# Altium footprint library host_connectors.PcbLib: 2 footprints
Each footprint in its own frame and in the unit in brackets; x right, y up, seen from the top. Pads: shape width x height; smd on the part's side, far side on the other; paste and mask are expansions set on the pad; w line width, h text height; cw(c..) or ccw(c..) is an arc to the next point about the centre after c.
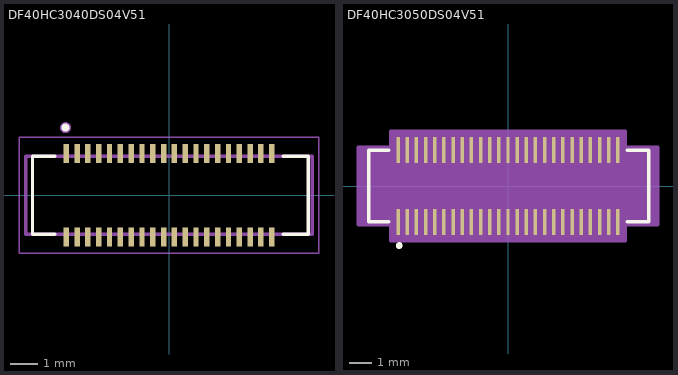
[diagram p0: the footprints below, top view; thin cyan lines are the x and y axes]

## DF40HC3040DS04V51 [mm]
pads (40):
  rect 0.2x0.7 smd: 1(-3.8,1.54) 2(-3.8,-1.54) 3(-3.4,1.54) 4(-3.4,-1.54) 5(-3,1.54) 6(-3,-1.54) 7(-2.6,1.54) 8(-2.6,-1.54) 9(-2.2,1.54) 10(-2.2,-1.54) 11(-1.8,1.54) 12(-1.8,-1.54) 13(-1.4,1.54) 14(-1.4,-1.54) 15(-1,1.54) 16(-1,-1.54) 17(-0.6,1.54) 18(-0.6,-1.54) 19(-0.2,1.54) 20(-0.2,-1.54) 21(0.2,1.54) 22(0.2,-1.54) 23(0.6,1.54) 24(0.6,-1.54) 25(1,1.54) 26(1,-1.54) 27(1.4,1.54) 28(1.4,-1.54) 29(1.8,1.54) 30(1.8,-1.54) 31(2.2,1.54) 32(2.2,-1.54) 33(2.6,1.54) 34(2.6,-1.54) 35(3,1.54) 36(3,-1.54) 37(3.4,1.54) 38(3.4,-1.54) 39(3.8,1.54) 40(3.8,-1.54)
Top Overlay:
  circle w0.2: c-3.83,2.5 r0.05
  lines w0.127: -4.22,-1.44 -5.05,-1.44 -5.05,1.44 -4.22,1.44 ; 4.22,-1.44 5.15,-1.44 5.15,1.44 4.22,1.44
Top Paste:
  drawing of 40 lines, arcs and shapes, not listed
Mechanical 13:
  circle w0.2: c-3.83,2.5 r0.1
  lines w0.127: -5.3,-1.44 -5.3,1.44 5.3,1.44 5.3,-1.44 -5.3,-1.44
Mechanical 15:
  lines w0.05: -5.55,-2.14 5.55,-2.14 5.55,2.14 -5.55,2.14 -5.55,-2.14
3D body "DF40HC(3.0)-40DS-0.4V.stp": height 2.89, standoff -0.01, extent -5.3,-1.69 5.3,1.69

## DF40HC3050DS04V51 [mil]
pads (50):
  rect 6x44.56 smd paste+0 mask+0: 1(-188.98,-62) 2(-173.23,-62) 3(-157.48,-62) 4(-141.73,-62) 5(-125.98,-62) 6(-110.24,-62) 7(-94.49,-62) 8(-78.74,-62) 9(-62.99,-62) 10(-47.24,-62) 11(-31.5,-62) 12(-15.75,-62) 13(0,-62) 14(15.75,-62) 15(31.5,-62) 16(47.24,-62) 17(62.99,-62) 18(78.74,-62) 19(94.49,-62) 20(110.24,-62) 21(125.98,-62) 22(141.73,-62) 23(157.48,-62) 24(173.23,-62) 25(188.98,-62) 26(188.98,62) 27(173.23,62) 28(157.48,62) 29(141.73,62) 30(125.98,62) 31(110.24,62) 32(94.49,62) 33(78.74,62) 34(62.99,62) 35(47.24,62) 36(31.5,62) 37(15.75,62) 38(0,62) 39(-15.75,62) 40(-31.5,62) 41(-47.24,62) 42(-62.99,62) 43(-78.74,62) 44(-94.49,62) 45(-110.24,62) 46(-125.98,62) 47(-141.73,62) 48(-157.48,62) 49(-173.23,62) 50(-188.98,62)
Top Overlay:
  circle w7.87: c-187.01,-102.36 r1.97
  lines w6: -205.08,-61.5 -239.17,-61.5 -239.17,61.5 -205.08,61.5 ; 205.08,-61.5 242.13,-61.5 242.13,61.5 205.08,61.5
Mechanical 13:
  lines w1: -248,-56.5 248,-56.5 248,56.5 -248,56.5 -248,-56.5
Mechanical 15:
  region: -201.98,-66.5 -258,-66.5 -258,66.5 -201.98,66.5 -201.98,94.28 201.98,94.28 201.98,66.5 258,66.5 258,-66.5 201.98,-66.5 201.98,-94.28 -201.98,-94.28
  region: 248,-56.5 -248,-56.5 -248,56.5 248,56.5
  lines w6: -258,-66.5 -258,66.5 -201.98,66.5 -201.98,94.28 201.98,94.28 201.98,66.5 258,66.5 258,-66.5 201.98,-66.5 201.98,-94.28 -201.98,-94.28 -201.98,-66.5 -258,-66.5
3D body "DF40HC(3.0)-50DS.stp": height 113.78, standoff -0.39, extent -248.03,-66.53 248.03,66.54